# Altium footprint library LM2576.PcbLib: 1 footprints
Each footprint in its own frame and in the unit in brackets; x right, y up, seen from the top. Pads: shape width x height; smd on the part's side, far side on the other; paste and mask are expansions set on the pad; w line width, h text height; cw(c..) or ccw(c..) is an arc to the next point about the centre after c.
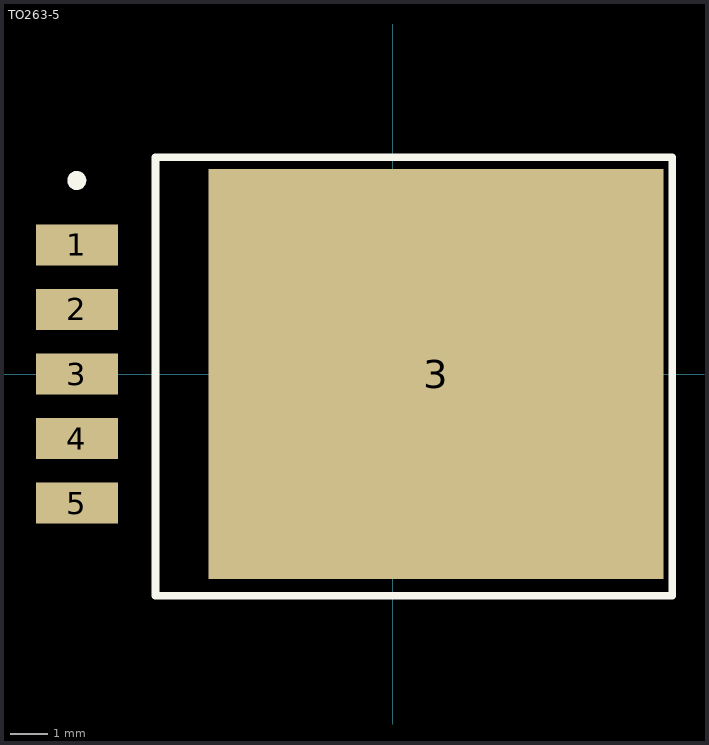
[diagram p0: the footprint, top view; thin cyan lines are the x and y axes]

## TO263-5 [mm] "D2-PAK, 4-Leads, Body 8.8x10.4mm, Pitch 2.54mm, Lead Span 15.1mm, IPC Medium Density"
height 4.69
pads (6):
  rect 2.16x1.07 smd: 1(-8.325,3.4) 2(-8.325,1.7) 3(-8.325,0) 4(-8.325,-1.7) 5(-8.325,-3.4)
  rect 12x10.8 smd: 3(1.143,0)
Top Overlay:
  circle w0.25: c-8.325,5.1 r0.125
  lines w0.2: -6.25,-5.842 7.366,-5.842 7.366,5.715 -6.25,5.715 -6.25,-5.842
Mechanical 15:
  lines w0.1: -4.05,0 -3.05,0 ; -3.55,-0.5 -3.55,0.5
3D body "TO263-5.STEP": height 4.78, standoff -0.02, extent -9.271,-5 6.399,5